# Altium footprint library Molex 503398-1892.PCBLIB: 1 footprints
Each footprint in its own frame and in the unit in brackets; x right, y up, seen from the top. Pads: shape width x height; smd on the part's side, far side on the other; paste and mask are expansions set on the pad; w line width, h text height; cw(c..) or ccw(c..) is an arc to the next point about the centre after c.
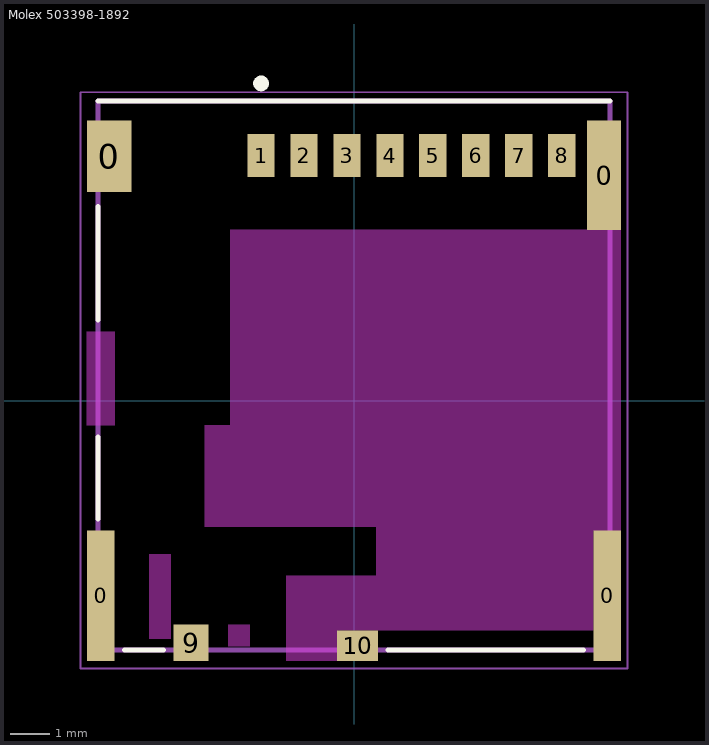
[diagram p0: the footprint, top view; thin cyan lines are the x and y axes]

## Molex 503398-1892 [mm] "1.10mm Pitch microSD Memory Card Connector, Normal Mount Surface Mount, Push-Push Type, 1.28mm Height"
height 1.28
pads (14):
  rect 0.7x3.33 smd: 0(-6.48,-4.995) 0(6.48,-4.995)
  rect 1.14x1.83 smd: 0(-6.26,6.255)
  rect 0.86x2.8 smd: 0(6.4,5.77)
  rect 0.7x1.1 smd: 1(-2.38,6.27) 2(-1.28,6.27) 3(-0.18,6.27) 4(0.92,6.27) 5(2.02,6.27) 6(3.12,6.27) 7(4.22,6.27) 8(5.32,6.27)
  rect 0.9x0.93 smd: 9(-4.17,-6.195)
  rect 1.05x0.78 smd: 10(0.095,-6.27)
Top Layer keep-out:
  region: 6.83,-3.33 6.13,-3.33 6.13,-5.88 -0.43,-5.88 -0.43,-6.66 -1.73,-6.66 -1.73,-4.48 0.57,-4.48 0.57,-3.23 -3.82,-3.23 -3.82,-0.63 -3.17,-0.63 -3.17,4.37 6.83,4.37
  region: -2.67,-6.285 -3.223,-6.285 -3.223,-5.73 -2.67,-5.73
  region: -4.685,-6.093 -5.245,-6.093 -5.245,-3.93 -4.685,-3.93
  region: -6.13,-0.631 -6.836,-0.631 -6.836,1.77 -6.13,1.77
Top Overlay:
  circle w0.2: c-2.38,8.12 r0.1
  lines w0.127: -6.55,-3.03 -6.55,-0.93 ; -6.55,2.07 -6.55,4.97 ; -6.55,7.67 6.55,7.67 ; -5.876,-6.38 -4.874,-6.38 ; 0.874,-6.38 5.876,-6.38
Mechanical 13:
  circle w0.2: c-2.38,6.42 r0.1
  lines w0.127: -6.55,-6.38 -6.55,7.67 6.55,7.67 6.55,-6.38 -6.55,-6.38
Mechanical 15:
  lines w0.05: -7,-6.855 -7,7.895 7,7.895 7,-6.855 -7,-6.855
3D body "step_temp.STEP": height 1.4, standoff 0, extent -6.55,-6.38 6.55,7.69